# EAGLE library part PIC18F44J11 (library hackaday_tutorial)
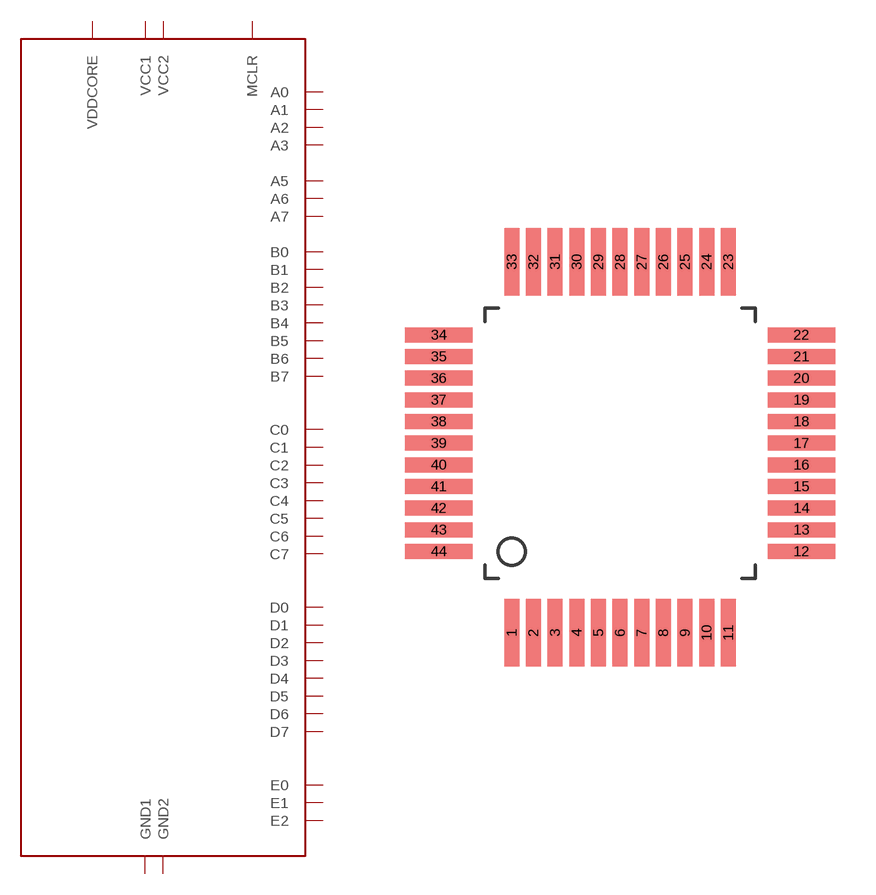
[diagram p0: symbol with the pads of TQFP-44; footprint TQFP-44]

Designator prefix -

## PIC18F44J11TQFP-44  [TQFP-44]
1  C7
2  D4
3  D5
4  D6
5  D7
6  VCC1
7  GND1
8  B0
9  B1
10  B2
11  B3
14  B4
15  B5
16  B6
17  B7
18  MCLR
19  A0
20  A1
21  A2
22  A3
23  VDDCORE
24  A5
25  E0
26  E1
27  E2
28  GND2
29  VCC2
30  A7
31  A6
32  C0
35  C1
36  C2
37  C3
38  D0
39  D1
40  D2
41  D3
42  C4
43  C5
44  C6

## Footprint TQFP-44 (pad centres in mm)
smd 0.55 x 2.5: 1 -4,-7; 2 -3.2,-7; 3 -2.4,-7; 4 -1.6,-7; 5 -0.8,-7; 6 0,-7; 7 0.8,-7; 8 1.6,-7; 9 2.4,-7; 10 3.2,-7; 11 4,-7; 23 4,6.7; 24 3.2,6.7; 25 2.4,6.7; 26 1.6,6.7; 27 0.8,6.7; 28 0,6.7; 29 -0.8,6.7; 30 -1.6,6.7; 31 -2.4,6.7; 32 -3.2,6.7; 33 -4,6.7
smd 2.5 x 0.55: 12 6.7,-4; 13 6.7,-3.2; 14 6.7,-2.4; 15 6.7,-1.6; 16 6.7,-0.8; 17 6.7,0; 18 6.7,0.8; 19 6.7,1.6; 20 6.7,2.4; 21 6.7,3.2; 22 6.7,4; 34 -6.7,4; 35 -6.7,3.2; 36 -6.7,2.4; 37 -6.7,1.6; 38 -6.7,0.8; 39 -6.7,0; 40 -6.7,-0.8; 41 -6.7,-1.6; 42 -6.7,-2.4; 43 -6.7,-3.2; 44 -6.7,-4